# Altium footprint library DCDC.PcbLib: 6 footprints
Each footprint in its own frame and in the unit in brackets; x right, y up, seen from the top. Pads: shape width x height; smd on the part's side, far side on the other; paste and mask are expansions set on the pad; w line width, h text height; cw(c..) or ccw(c..) is an arc to the next point about the centre after c.
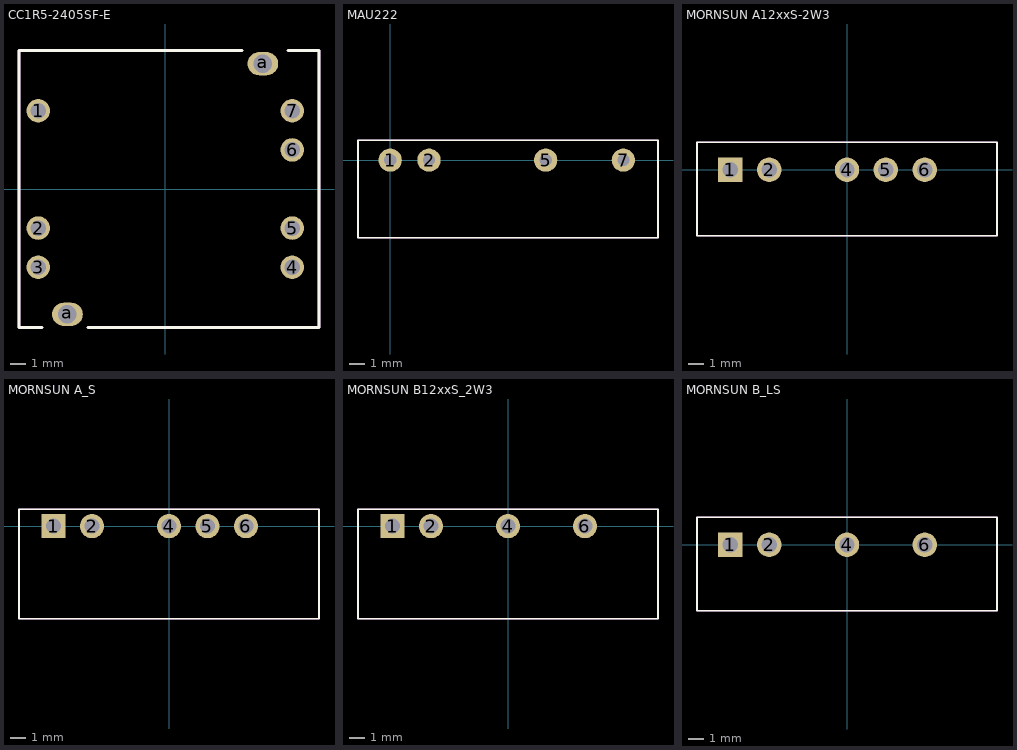
[diagram p0: the footprints below, top view; thin cyan lines are the x and y axes]

## CC1R5-2405SF-E [mil]
pads (9):
  round 60 hole 39.37: 1(-325,200) 2(-325,-100) 3(-325,-200) 4(325,-200) 5(325,-100) 6(325,100) 7(325,200)
  oval 78.74x60 hole 47.24: a(-250,-320.87) a(250,320.87)
Top Overlay:
  lines w7.87: -314.96,-354.33 -374.02,-354.33 -374.02,354.33 196.85,354.33 ; -196.85,-354.33 393.7,-354.33 393.7,354.33 314.96,354.33
Top_ass:
  lines w7.87: -314.96,-354.33 -374.02,-354.33 -374.02,354.33 196.85,354.33 ; -196.85,-354.33 393.7,-354.33 393.7,354.33 334.65,354.33
  text ".Designator" at -118.11,-19.68 h60

## MAU222 [mil]
pads (4):
  round 60 hole 31.5: 1(0,0) 2(100,0) 5(400,0) 7(600,0)
Top Overlay:
  lines w3.94: -82.68,-200 -82.68,0 -82.68,51.18 688.98,51.18 688.98,-200 -82.68,-200
Top_ass:
  lines w3.94: -82.68,-200 688.98,-200 688.98,51.18 -82.68,51.18 -82.68,0 -82.68,-200
  text ".Designator" at 177.17,-98.43 h60

## MORNSUN A12xxS-2W3 [mm]
pads (5):
  rect 1.6x1.6 hole 1: 1(-7.62,0)
  round 1.6 hole 1: 2(-5.08,0) 4(0,0) 5(2.54,0) 6(5.08,0)
Top Overlay:
  lines w0.1: -9.8,-4.3 -9.8,1.8 9.8,1.8 9.8,-4.3 -9.8,-4.3
Top_ass:
  lines w0.1: -9.8,-4.3 9.8,-4.3 9.8,1.8 -9.8,1.8 -9.8,-4.3
  text ".Designator" at -2.2,-1.6 h1.52
3D body "DC_DC Mornsun.STEP": height 9.3, standoff -3, extent -9.75,-4.3 9.75,1.7

## MORNSUN A_S [mm]
pads (5):
  rect 1.6x1.6 hole 1: 1(-7.62,0)
  round 1.6 hole 1: 2(-5.08,0) 4(0,0) 5(2.54,0) 6(5.08,0)
Top Overlay:
  lines w0.1: -9.9,-6.1 -9.9,1.1 9.9,1.1 9.9,-6.1 -9.9,-6.1
Top_ass:
  lines w0.1: -9.9,-6.1 9.9,-6.1 9.9,1.1 -9.9,1.1 -9.9,-6.1
  text ".Designator" at -2.2,-1.6 h1.52
3D body "MornsumA12xxS-2W3.SLDPRT.STEP": height 10.16, standoff -3, extent -9.825,-6.065 9.825,0.985

## MORNSUN B12xxS_2W3 [mm]
pads (4):
  rect 1.6x1.6 hole 1: 1(-7.62,0)
  round 1.6 hole 1: 2(-5.08,0) 4(0,0) 6(5.08,0)
Top Overlay:
  lines w0.1: -9.9,-6.1 -9.9,1.1 9.9,1.1 9.9,-6.1 -9.9,-6.1
Top_ass:
  lines w0.1: -9.9,-6.1 9.9,-6.1 9.9,1.1 -9.9,1.1 -9.9,-6.1
  text ".Designator" at -2.2,-1.6 h1.52
3D body "MornsumB12xxS-2W3.STEP": height 10.16, standoff -3, extent -9.825,-6.065 9.825,0.985

## MORNSUN B_LS [mm]
pads (4):
  rect 1.6x1.6 hole 1: 1(-7.62,0)
  round 1.6 hole 1: 2(-5.08,0) 4(0,0) 6(5.08,0)
Top Overlay:
  lines w0.1: -9.8,-4.3 -9.8,1.8 9.8,1.8 9.8,-4.3 -9.8,-4.3
Top_ass:
  lines w0.1: -9.8,-4.3 9.8,-4.3 9.8,1.8 -9.8,1.8 -9.8,-4.3
  text ".Designator" at -2.2,-1.6 h1.52
3D body "DC_DC Mornsun B_LS.STEP": height 9.3, standoff -3, extent -9.75,-4.27 9.75,1.73